# EAGLE library part L6470H (library Hardware)
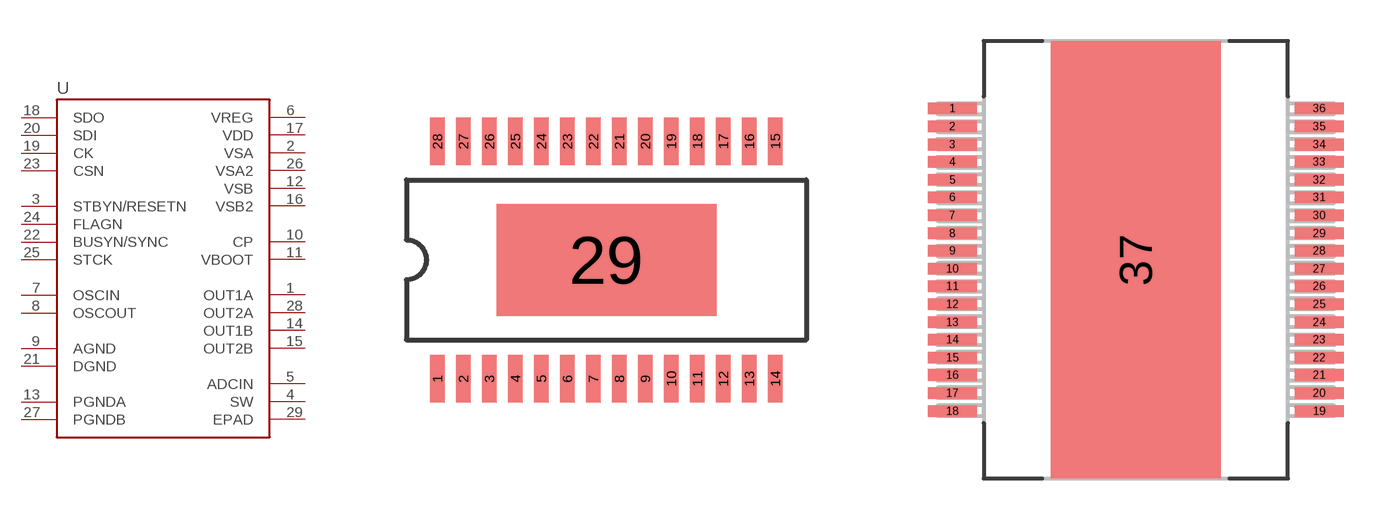
[diagram p2: symbol with the pads of HTSSOP28; footprints HTSSOP28, SOP65P1400X360-37N]

Designator prefix -

## L6470HHTSSOP28  [HTSSOP28]
1  OUT1A
2  VSA
3  STBYN/RESETN
4  SW
5  ADCIN
6  VREG
7  OSCIN
8  OSCOUT
9  AGND
10  CP
11  VBOOT
12  VSB
13  PGNDA
14  OUT1B
15  OUT2B
16  VSB2
17  VDD
18  SDO
19  CK
20  SDI
21  DGND
22  BUSYN/SYNC
23  CSN
24  FLAGN
25  STCK
26  VSA2
27  PGNDB
28  OUT2A
29  EPAD

## L6470HPOWERSO36  [SOP65P1400X360-37N]
1  PGNDA
2  OUT1A
3  OUT1A
4  VSA
5  VSA
6  STBYN/RESETN
7  SW
8  ADCIN
9  VREG
10  OSCIN
11  OSCOUT
12  AGND
13  CP
14  VBOOT
15  VSB
16  VSB
17  OUT1B
18  OUT1B
19  PGNDB
20  OUT2B
21  OUT2B
22  VSB2
23  VSB2
24  VDD
25  SDO
26  CK
27  SDI
28  DGND
29  BUSYN/SYNC
30  CSN
31  FLAGN
32  STCK
33  VSA2
34  VSA2
35  OUT2A
36  OUT2A
37  EPAD

## Footprint HTSSOP28 (pad centres in mm)
smd 0.36 x 1.19: 1 -4.225,-2.97; 2 -3.575,-2.97; 3 -2.925,-2.97; 4 -2.275,-2.97; 5 -1.625,-2.97; 6 -0.975,-2.97; 7 -0.325,-2.97; 8 0.325,-2.97; 9 0.975,-2.97; 10 1.625,-2.97; 11 2.275,-2.97; 12 2.925,-2.97; 13 3.575,-2.97; 14 4.225,-2.97; 15 4.225,2.97; 16 3.575,2.97; 17 2.925,2.97; 18 2.275,2.97; 19 1.625,2.97; 20 0.975,2.97; 21 0.325,2.97; 22 -0.325,2.97; 23 -0.975,2.97; 24 -1.625,2.97; 25 -2.275,2.97; 26 -2.925,2.97; 27 -3.575,2.97; 28 -4.225,2.97
smd 5.5 x 2.8: 29 0,0

## Footprint SOP65P1400X360-37N (pad centres in mm)
smd 1.803 x 0.432: 1 -6.706,5.537; 2 -6.706,4.877; 3 -6.706,4.216; 4 -6.706,3.581; 5 -6.706,2.921; 6 -6.706,2.286; 7 -6.706,1.626; 8 -6.706,0.965; 9 -6.706,0.33; 10 -6.706,-0.33; 11 -6.706,-0.965; 12 -6.706,-1.626; 13 -6.706,-2.286; 14 -6.706,-2.921; 15 -6.706,-3.581; 16 -6.706,-4.216; 17 -6.706,-4.877; 18 -6.706,-5.537; 19 6.706,-5.537; 20 6.706,-4.877; 21 6.706,-4.216; 22 6.706,-3.581; 23 6.706,-2.921; 24 6.706,-2.286; 25 6.706,-1.626; 26 6.706,-0.965; 27 6.706,-0.33; 28 6.706,0.33; 29 6.706,0.965; 30 6.706,1.626; 31 6.706,2.286; 32 6.706,2.921; 33 6.706,3.581; 34 6.706,4.216; 35 6.706,4.877; 36 6.706,5.537
smd 6.198 x 16.002: 37 0,0